# EAGLE library part 8P8C-02 (library modular-jack)
2 x 8P8C (RJ-45) modular jack
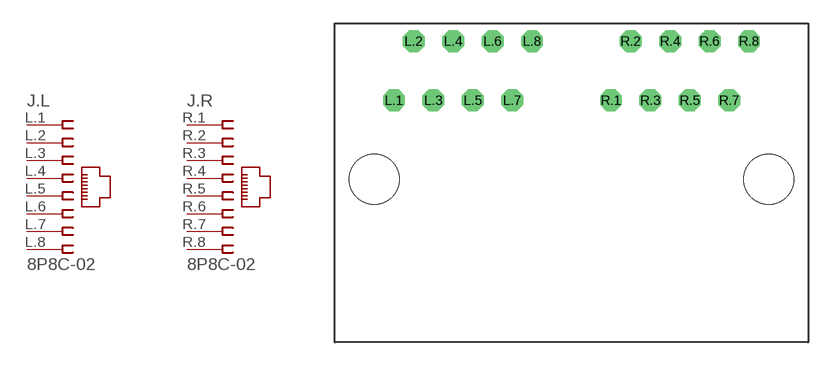
[diagram p1: symbol with the pads of TJ9-8P8C-02; footprint TJ9-8P8C-02]

Designator prefix J; gates .L=JACK8 .R=JACK8

## 8P8C-02  [TJ9-8P8C-02]
L.1  .L:1  pas
L.2  .L:2  pas
L.3  .L:3  pas
L.4  .L:4  pas
L.5  .L:5  pas
L.6  .L:6  pas
L.7  .L:7  pas
L.8  .L:8  pas
R.1  .R:1  pas
R.2  .R:2  pas
R.3  .R:3  pas
R.4  .R:4  pas
R.5  .R:5  pas
R.6  .R:6  pas
R.7  .R:7  pas
R.8  .R:8  pas

## Footprint TJ9-8P8C-02 (pad centres in mm)
drill 0.9 octagon: L.1 -11.43,5.08; L.2 -10.16,8.89; L.3 -8.89,5.08; L.4 -7.62,8.89; L.5 -6.35,5.08; L.6 -5.08,8.89; L.7 -3.81,5.08; L.8 -2.54,8.89; R.1 2.54,5.08; R.2 3.81,8.89; R.3 5.08,5.08; R.4 6.35,8.89; R.5 7.62,5.08; R.6 8.89,8.89; R.7 10.16,5.08; R.8 11.43,8.89
hole 3.2 at 12.7,0
hole 3.2 at -12.7,0